# EAGLE library part NUCLEO64-F446 (library nucleo-64)
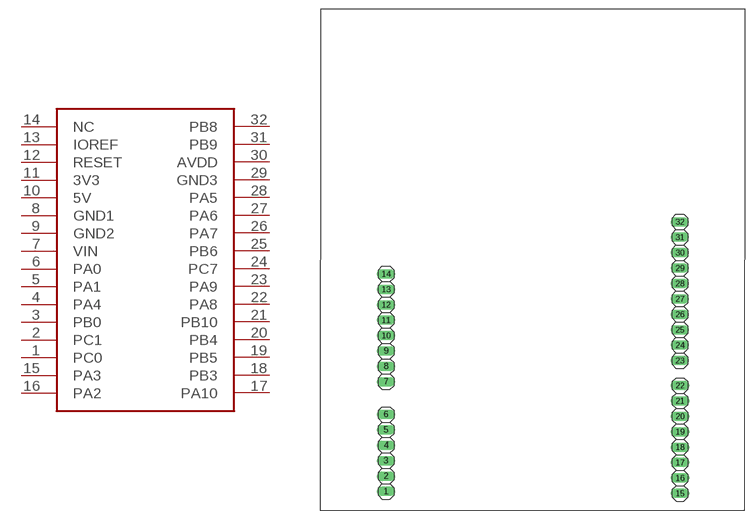
[diagram p0: symbol with the pads of NUCLEO64; footprint NUCLEO64]

Designator prefix -

## NUCLEO64-F446  [NUCLEO64]
1  PC0
2  PC1
3  PB0
4  PA4
5  PA1
6  PA0
7  VIN
8  GND1
9  GND2
10  5V
11  3V3
12  RESET
13  IOREF
14  NC
15  PA3
16  PA2
17  PA10
18  PB3
19  PB5
20  PB4
21  PB10
22  PA8
23  PA9
24  PC7
25  PB6
26  PA7
27  PA6
28  PA5
29  GND3
30  AVDD
31  PB9
32  PB8

## Footprint NUCLEO64 (pad centres in mm)
PIN HEADER
drill 1.016 long: 1 10.9,3.11; 2 10.9,5.65; 3 10.9,8.19; 4 10.9,10.73; 5 10.9,13.27; 6 10.9,15.81; 7 10.9,21.19; 8 10.9,23.73; 9 10.9,26.27; 10 10.9,28.81; 11 10.9,31.35; 12 10.9,33.89; 13 10.9,36.43; 14 10.9,38.97; 15 59.32,2.81; 16 59.32,5.35; 17 59.32,7.89; 18 59.32,10.43; 19 59.32,12.97; 20 59.32,15.51; 21 59.32,18.05; 22 59.32,20.59; 23 59.3,24.69; 24 59.3,27.23; 25 59.3,29.77; 26 59.3,32.31; 27 59.3,34.85; 28 59.3,37.39; 29 59.3,39.93; 30 59.3,42.47; 31 59.3,45.01; 32 59.3,47.55